# Altium footprint library ARDUINO_PRO_MINI.PcbLib: 2 footprints
Each footprint in its own frame and in the unit in brackets; x right, y up, seen from the top. Pads: shape width x height; smd on the part's side, far side on the other; paste and mask are expansions set on the pad; w line width, h text height; cw(c..) or ccw(c..) is an arc to the next point about the centre after c.
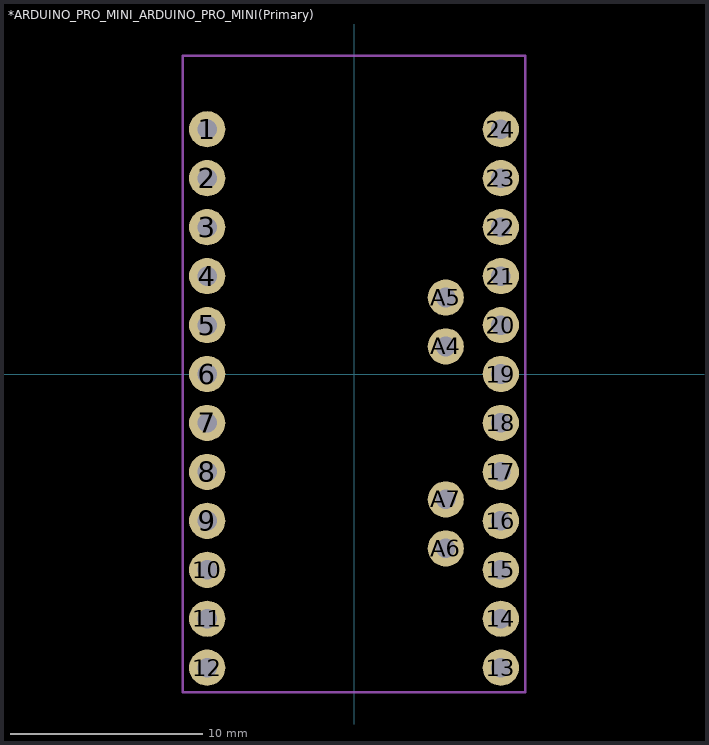
[diagram p0: the footprints below, top view; thin cyan lines are the x and y axes]

## *ARDUINO_PRO_MINI_ARDUINO_PRO_MINI(Primary) [mil]
pads (28):
  round 74 hole 40: 1(-300,500) 2(-300,400) 3(-300,300) 4(-300,200) 5(-300,100) 6(-300,0) 7(-300,-100) 8(-300,-200) 9(-300,-300) 10(-300,-400) 11(-300,-500) 12(-300,-600) 13(300,-600) 14(300,-500) 15(300,-400) 16(300,-300) 17(300,-200) 18(300,-100) 19(300,0) 20(300,100) 21(300,200) 22(300,300) 23(300,400) 24(300,500) A4(187.5,56.25) A5(187.5,156.25) A6(187.5,-356.25) A7(187.5,-256.25)
Mechanical 4:
  lines w5: -350,-650 350,-650 ; -350,-650 -350,650 ; -350,-650 350,-650 ; -350,-650 -350,650 ; -350,650 350,650 ; -350,650 350,650 ; 350,-650 350,650 ; 350,-650 350,650

## PCBComponent_1 [mil]